# Altium footprint library ADT1-1WT+.PcbLib: 1 footprints
Each footprint in its own frame and in the unit in brackets; x right, y up, seen from the top. Pads: shape width x height; smd on the part's side, far side on the other; paste and mask are expansions set on the pad; w line width, h text height; cw(c..) or ccw(c..) is an arc to the next point about the centre after c.
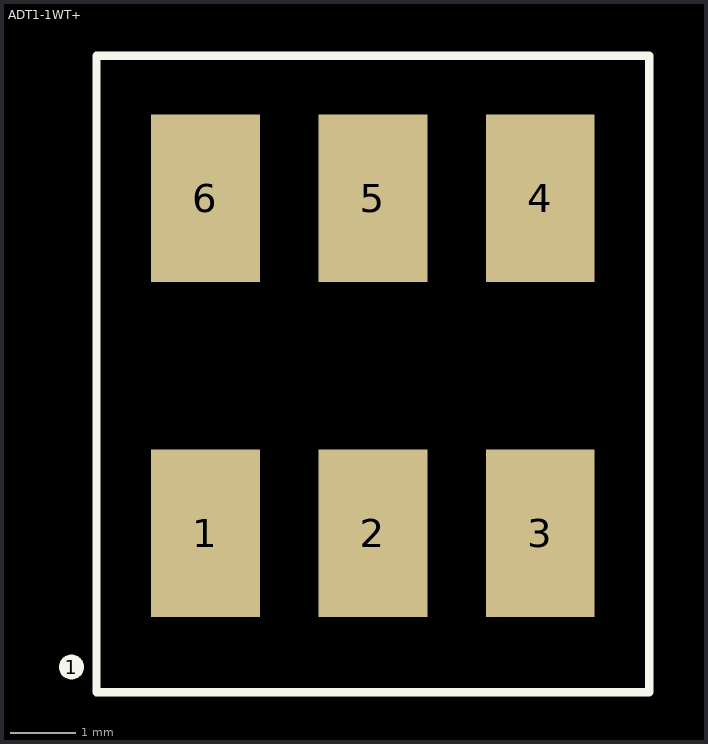
[diagram p0: the footprint, top view; thin cyan lines are the x and y axes]

## ADT1-1WT+ [mil]
pads (7):
  round 15 on Top Overlay: 1(-49700,-49785)
  rect 65x100 smd: 1(-49620,-49705) 2(-49520,-49705) 3(-49420,-49705) 4(-49420,-49505) 5(-49520,-49505) 6(-49620,-49505)
Top Overlay:
  lines w5: -49685,-49800 -49685,-49420 -49355,-49420 -49355,-49800 -49685,-49800